# EAGLE library part XTR103P (library burr-brown)
4-20mA Current Transmitter with RTD Excitation And Linearization
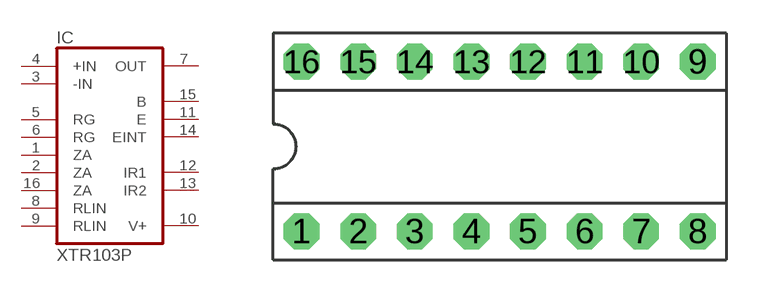
[diagram p207: symbol with the pads of DIP-16; footprint DIP-16]

Designator prefix IC

## XTR103P  [DIP-16]
1  ZA  pas
2  ZA  pas
3  -IN  in
4  +IN  in
5  RG  pas
6  RG  pas
7  OUT  out
8  RLIN  pas
9  RLIN  pas
10  V+  pwr
11  E  out
12  IR1  pas
13  IR2  pas
14  EINT  pas
15  B  out
16  ZA  pas

## Footprint DIP-16 (pad centres in mm)
drill 0.813 pad 1.6 octagon: 1 -8.89,-3.81; 2 -6.35,-3.81; 3 -3.81,-3.81; 4 -1.27,-3.81; 5 1.27,-3.81; 6 3.81,-3.81; 7 6.35,-3.81; 8 8.89,-3.81; 9 8.89,3.81; 10 6.35,3.81; 11 3.81,3.81; 12 1.27,3.81; 13 -1.27,3.81; 14 -3.81,3.81; 15 -6.35,3.81; 16 -8.89,3.81